# Altium integrated library Vishay Sprague Tantalum Axial-Lead Capacitor.IntLib: 132 symbols (part 1 of 2)
Pins are listed as number, name and electrical type; pins without a type are passive.

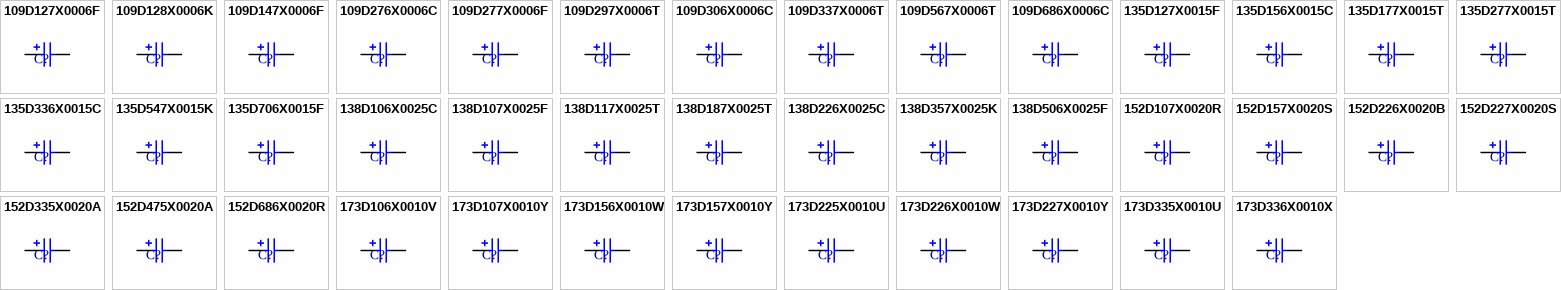
[diagram p0: symbols 109D127X0006F to 173D336X0010X]

## 109D127X0006F
designator C?
Tubular Elastomer-Sealed, Gelled-Electrolyte Sintered Anode Tantalex Capacitor For Operation to +125°C: 120uF, 20% Tolerance, 6 WVDC @ +85°C; Note: See Data Sheet for full range of components; Published: 19-Mar-2004; DatasheetDocument: 15-Jan-2001; PackageReference: 109D-F; Publisher: Altium Limited; ComponentLink1Description: Manufacturer Link; ComponentLink1URL: http://www.vishay.com/; ComponentLink2Description: Datasheet; ComponentLink2URL: http://www.vishay.com/docs/40023/109d.pdf; Value: 120uF
footprint 109D-F (Capacitor, Axial, Polarised; Body 17 x 7.5 mm (LxDia. max), Lead Dia. 0.64 mm (typ))
simulation model CAP (Capacitor)
signal-integrity model 109D127X0006F0
pins: 1, 2
1 alternate drawing of the same symbol

## 109D128X0006K
designator C?
Tubular Elastomer-Sealed, Gelled-Electrolyte Sintered Anode Tantalex Capacitor For Operation to +125°C: 1200uF, 20% Tolerance, 6 WVDC @ +85°C; Note: See Data Sheet for full range of components; Published: 19-Mar-2004; DatasheetDocument: 15-Jan-2001; PackageReference: 109D-K; Publisher: Altium Limited; ComponentLink1Description: Manufacturer Link; ComponentLink1URL: http://www.vishay.com/; ComponentLink2Description: Datasheet; ComponentLink2URL: http://www.vishay.com/docs/40023/109d.pdf; Value: 1200uF
footprint 109D-K (Capacitor, Axial, Polarised; Body 27.8 x 9.9 mm (LxDia. max), Lead Dia. 0.64 mm (typ))
simulation model CAP (Capacitor)
signal-integrity model 109D128X0006K0
pins: 1, 2
1 alternate drawing of the same symbol

## 109D147X0006F
designator C?
Tubular Elastomer-Sealed, Gelled-Electrolyte Sintered Anode Tantalex Capacitor For Operation to +125°C: 140uF, 20% Tolerance, 6 WVDC @ +85°C; Note: See Data Sheet for full range of components; Published: 19-Mar-2004; DatasheetDocument: 15-Jan-2001; PackageReference: 109D-F; Publisher: Altium Limited; ComponentLink1Description: Manufacturer Link; ComponentLink1URL: http://www.vishay.com/; ComponentLink2Description: Datasheet; ComponentLink2URL: http://www.vishay.com/docs/40023/109d.pdf; Value: 140uF
footprint 109D-F (Capacitor, Axial, Polarised; Body 17 x 7.5 mm (LxDia. max), Lead Dia. 0.64 mm (typ))
simulation model CAP (Capacitor)
signal-integrity model 109D147X0006F0
pins: 1, 2
1 alternate drawing of the same symbol

## 109D276X0006C
designator C?
Tubular Elastomer-Sealed, Gelled-Electrolyte Sintered Anode Tantalex Capacitor For Operation to +125°C: 27uF, 20% Tolerance, 6 WVDC @ +85°C; Note: See Data Sheet for full range of components; Published: 19-Mar-2004; DatasheetDocument: 15-Jan-2001; PackageReference: 109D-C; Publisher: Altium Limited; ComponentLink1Description: Manufacturer Link; ComponentLink1URL: http://www.vishay.com/; ComponentLink2Description: Datasheet; ComponentLink2URL: http://www.vishay.com/docs/40023/109d.pdf; Value: 27uF
footprint 109D-C (Capacitor, Axial, Polarised; Body 12.3 x 5.2 mm (LxDia. max), Lead Dia. 0.64 mm (typ))
simulation model CAP (Capacitor)
signal-integrity model 109D276X0006C0
pins: 1, 2
1 alternate drawing of the same symbol

## 109D277X0006F
designator C?
Tubular Elastomer-Sealed, Gelled-Electrolyte Sintered Anode Tantalex Capacitor For Operation to +125°C: 270uF, 20% Tolerance, 6 WVDC @ +85°C; Note: See Data Sheet for full range of components; Published: 19-Mar-2004; DatasheetDocument: 15-Jan-2001; PackageReference: 109D-F; Publisher: Altium Limited; ComponentLink1Description: Manufacturer Link; ComponentLink1URL: http://www.vishay.com/; ComponentLink2Description: Datasheet; ComponentLink2URL: http://www.vishay.com/docs/40023/109d.pdf; Value: 270uF
footprint 109D-F (Capacitor, Axial, Polarised; Body 17 x 7.5 mm (LxDia. max), Lead Dia. 0.64 mm (typ))
simulation model CAP (Capacitor)
signal-integrity model 109D277X0006F0
pins: 1, 2
1 alternate drawing of the same symbol

## 109D297X0006T
designator C?
Tubular Elastomer-Sealed, Gelled-Electrolyte Sintered Anode Tantalex Capacitor For Operation to +125°C: 290uF, 20% Tolerance, 6 WVDC @ +85°C; Note: See Data Sheet for full range of components; Published: 19-Mar-2004; DatasheetDocument: 15-Jan-2001; PackageReference: 109D-T; Publisher: Altium Limited; ComponentLink1Description: Manufacturer Link; ComponentLink1URL: http://www.vishay.com/; ComponentLink2Description: Datasheet; ComponentLink2URL: http://www.vishay.com/docs/40023/109d.pdf; Value: 290uF
footprint 109D-T (Capacitor, Axial, Polarised; Body 20.2 x 9.9 mm (LxDia. max), Lead Dia. 0.64 mm (typ))
simulation model CAP (Capacitor)
signal-integrity model 109D297X0006T0
pins: 1, 2
1 alternate drawing of the same symbol

## 109D306X0006C
designator C?
Tubular Elastomer-Sealed, Gelled-Electrolyte Sintered Anode Tantalex Capacitor For Operation to +125°C: 30uF, 20% Tolerance, 6 WVDC @ +85°C; Note: See Data Sheet for full range of components; Published: 19-Mar-2004; DatasheetDocument: 15-Jan-2001; PackageReference: 109D-C; Publisher: Altium Limited; ComponentLink1Description: Manufacturer Link; ComponentLink1URL: http://www.vishay.com/; ComponentLink2Description: Datasheet; ComponentLink2URL: http://www.vishay.com/docs/40023/109d.pdf; Value: 30uF
footprint 109D-C (Capacitor, Axial, Polarised; Body 12.3 x 5.2 mm (LxDia. max), Lead Dia. 0.64 mm (typ))
simulation model CAP (Capacitor)
signal-integrity model 109D306X0006C0
pins: 1, 2
1 alternate drawing of the same symbol

## 109D337X0006T
designator C?
Tubular Elastomer-Sealed, Gelled-Electrolyte Sintered Anode Tantalex Capacitor For Operation to +125°C: 330uF, 20% Tolerance, 6 WVDC @ +85°C; Note: See Data Sheet for full range of components; Published: 19-Mar-2004; DatasheetDocument: 15-Jan-2001; PackageReference: 109D-T; Publisher: Altium Limited; ComponentLink1Description: Manufacturer Link; ComponentLink1URL: http://www.vishay.com/; ComponentLink2Description: Datasheet; ComponentLink2URL: http://www.vishay.com/docs/40023/109d.pdf; Value: 330uF
footprint 109D-T (Capacitor, Axial, Polarised; Body 20.2 x 9.9 mm (LxDia. max), Lead Dia. 0.64 mm (typ))
simulation model CAP (Capacitor)
signal-integrity model 109D337X0006T0
pins: 1, 2
1 alternate drawing of the same symbol

## 109D567X0006T
designator C?
Tubular Elastomer-Sealed, Gelled-Electrolyte Sintered Anode Tantalex Capacitor For Operation to +125°C: 560uF, 20% Tolerance, 6 WVDC @ +85°C; Note: See Data Sheet for full range of components; Published: 19-Mar-2004; DatasheetDocument: 15-Jan-2001; PackageReference: 109D-T; Publisher: Altium Limited; ComponentLink1Description: Manufacturer Link; ComponentLink1URL: http://www.vishay.com/; ComponentLink2Description: Datasheet; ComponentLink2URL: http://www.vishay.com/docs/40023/109d.pdf; Value: 560uF
footprint 109D-T (Capacitor, Axial, Polarised; Body 20.2 x 9.9 mm (LxDia. max), Lead Dia. 0.64 mm (typ))
simulation model CAP (Capacitor)
signal-integrity model 109D567X0006T0
pins: 1, 2
1 alternate drawing of the same symbol

## 109D686X0006C
designator C?
Tubular Elastomer-Sealed, Gelled-Electrolyte Sintered Anode Tantalex Capacitor For Operation to +125°C: 68uF, 20% Tolerance, 6 WVDC @ +85°C; Note: See Data Sheet for full range of components; Published: 19-Mar-2004; DatasheetDocument: 15-Jan-2001; PackageReference: 109D-C; Publisher: Altium Limited; ComponentLink1Description: Manufacturer Link; ComponentLink1URL: http://www.vishay.com/; ComponentLink2Description: Datasheet; ComponentLink2URL: http://www.vishay.com/docs/40023/109d.pdf; Value: 68uF
footprint 109D-C (Capacitor, Axial, Polarised; Body 12.3 x 5.2 mm (LxDia. max), Lead Dia. 0.64 mm (typ))
simulation model CAP (Capacitor)
signal-integrity model 109D686X0006C0
pins: 1, 2
1 alternate drawing of the same symbol

## 135D127X0015F
designator C?
Tantalum-Case Tantalum Electrolytic Capacitor with Glass-to-Tantalum Hermetic Seal for -55°C to +200°C Operation: 120uF, 20% Tolerance, 15 WVDC @ +85°C; Note: See Data Sheet for full range of components; Published: 19-Mar-2004; DatasheetDocument: 15-Jan-2001; PackageReference: 135D-F; Publisher: Altium Limited; ComponentLink1Description: Manufacturer Link; ComponentLink1URL: http://www.vishay.com/; ComponentLink2Description: Datasheet; ComponentLink2URL: http://www.vishay.com/docs/40024/135d.pdf; Value: 120uF
footprint 135D-F (Capacitor, Axial, Polarised; Body 17.1 x 7.5 mm (LxDia. max), Lead Dia. 0.64 mm (typ))
simulation model CAP (Capacitor)
signal-integrity model 135D127X0015F2
pins: 1, 2
1 alternate drawing of the same symbol

## 135D156X0015C
designator C?
Tantalum-Case Tantalum Electrolytic Capacitor with Glass-to-Tantalum Hermetic Seal for -55°C to +200°C Operation: 15uF, 20% Tolerance, 15 WVDC @ +85°C; Note: See Data Sheet for full range of components; Published: 19-Mar-2004; DatasheetDocument: 15-Jan-2001; PackageReference: 135D-C; Publisher: Altium Limited; ComponentLink1Description: Manufacturer Link; ComponentLink1URL: http://www.vishay.com/; ComponentLink2Description: Datasheet; ComponentLink2URL: http://www.vishay.com/docs/40024/135d.pdf; Value: 15uF
footprint 135D-C (Capacitor, Axial, Polarised; Body 12.3 x 5.2 mm (LxDia. max), Lead Dia. 0.64 mm (typ))
simulation model CAP (Capacitor)
signal-integrity model 135D156X0015C2
pins: 1, 2
1 alternate drawing of the same symbol

## 135D177X0015T
designator C?
Tantalum-Case Tantalum Electrolytic Capacitor with Glass-to-Tantalum Hermetic Seal for -55°C to +200°C Operation: 170uF, 20% Tolerance, 15 WVDC @ +85°C; Note: See Data Sheet for full range of components; Published: 19-Mar-2004; DatasheetDocument: 15-Jan-2001; PackageReference: 135D-T; Publisher: Altium Limited; ComponentLink1Description: Manufacturer Link; ComponentLink1URL: http://www.vishay.com/; ComponentLink2Description: Datasheet; ComponentLink2URL: http://www.vishay.com/docs/40024/135d.pdf; Value: 170uF
footprint 135D-T (Capacitor, Axial, Polarised; Body 20.2 x 9.9 mm (LxDia. max), Lead Dia. 0.64 mm (typ))
simulation model CAP (Capacitor)
signal-integrity model 135D177X0015T2
pins: 1, 2
1 alternate drawing of the same symbol

## 135D277X0015T
designator C?
Tantalum-Case Tantalum Electrolytic Capacitor with Glass-to-Tantalum Hermetic Seal for -55°C to +200°C Operation: 270uF, 20% Tolerance, 15 WVDC @ +85°C; Note: See Data Sheet for full range of components; Published: 19-Mar-2004; DatasheetDocument: 15-Jan-2001; PackageReference: 135D-T; Publisher: Altium Limited; ComponentLink1Description: Manufacturer Link; ComponentLink1URL: http://www.vishay.com/; ComponentLink2Description: Datasheet; ComponentLink2URL: http://www.vishay.com/docs/40024/135d.pdf; Value: 270uF
footprint 135D-T (Capacitor, Axial, Polarised; Body 20.2 x 9.9 mm (LxDia. max), Lead Dia. 0.64 mm (typ))
simulation model CAP (Capacitor)
signal-integrity model 135D277X0015T2
pins: 1, 2
1 alternate drawing of the same symbol

## 135D336X0015C
designator C?
Tantalum-Case Tantalum Electrolytic Capacitor with Glass-to-Tantalum Hermetic Seal for -55°C to +200°C Operation: 33uF, 20% Tolerance, 15 WVDC @ +85°C; Note: See Data Sheet for full range of components; Published: 19-Mar-2004; DatasheetDocument: 15-Jan-2001; PackageReference: 135D-C; Publisher: Altium Limited; ComponentLink1Description: Manufacturer Link; ComponentLink1URL: http://www.vishay.com/; ComponentLink2Description: Datasheet; ComponentLink2URL: http://www.vishay.com/docs/40024/135d.pdf; Value: 33uF
footprint 135D-C (Capacitor, Axial, Polarised; Body 12.3 x 5.2 mm (LxDia. max), Lead Dia. 0.64 mm (typ))
simulation model CAP (Capacitor)
signal-integrity model 135D336X0015C2
pins: 1, 2
1 alternate drawing of the same symbol

## 135D547X0015K
designator C?
Tantalum-Case Tantalum Electrolytic Capacitor with Glass-to-Tantalum Hermetic Seal for -55°C to +200°C Operation: 540uF, 20% Tolerance, 15 WVDC @ +85°C; Note: See Data Sheet for full range of components; Published: 19-Mar-2004; DatasheetDocument: 15-Jan-2001; PackageReference: 135D-K; Publisher: Altium Limited; ComponentLink1Description: Manufacturer Link; ComponentLink1URL: http://www.vishay.com/; ComponentLink2Description: Datasheet; ComponentLink2URL: http://www.vishay.com/docs/40024/135d.pdf; Value: 540uF
footprint 135D-K (Capacitor, Axial, Polarised; Body 27.8 x 9.9 mm (LxDia. max), Lead Dia. 0.64 mm (typ))
simulation model CAP (Capacitor)
signal-integrity model 135D547X0015K2
pins: 1, 2
1 alternate drawing of the same symbol

## 135D706X0015F
designator C?
Tantalum-Case Tantalum Electrolytic Capacitor with Glass-to-Tantalum Hermetic Seal for -55°C to +200°C Operation: 70uF, 20% Tolerance, 15 WVDC @ +85°C; Note: See Data Sheet for full range of components; Published: 19-Mar-2004; DatasheetDocument: 15-Jan-2001; PackageReference: 135D-F; Publisher: Altium Limited; ComponentLink1Description: Manufacturer Link; ComponentLink1URL: http://www.vishay.com/; ComponentLink2Description: Datasheet; ComponentLink2URL: http://www.vishay.com/docs/40024/135d.pdf; Value: 70uF
footprint 135D-F (Capacitor, Axial, Polarised; Body 17.1 x 7.5 mm (LxDia. max), Lead Dia. 0.64 mm (typ))
simulation model CAP (Capacitor)
signal-integrity model 135D706X0015F2
pins: 1, 2
1 alternate drawing of the same symbol

## 138D106X0025C
designator C?
Gelled-Electrolyte Sintered Anode Tantalex Capacitor with Glass-to-Tantalum True Hermetic Anode Seal: 10uF, 20% Tolerance, 25 WVDC @ +85°C; Note: See Data Sheet for full range of components; Published: 19-Mar-2004; DatasheetDocument: 18-Jan-2002; PackageReference: 138D-C; Publisher: Altium Limited; ComponentLink1Description: Manufacturer Link; ComponentLink1URL: http://www.vishay.com/; ComponentLink2Description: Datasheet; ComponentLink2URL: http://www.vishay.com/docs/40025/138d.pdf; Value: 10uF
footprint 138D-C (Capacitor, Axial, Polarised; Body 12.3 x 5.1 mm (LxDia. max), Lead Dia. 0.64 mm (typ))
simulation model CAP (Capacitor)
signal-integrity model 138D106X0025C0
pins: 1, 2
1 alternate drawing of the same symbol

## 138D107X0025F
designator C?
Gelled-Electrolyte Sintered Anode Tantalex Capacitor with Glass-to-Tantalum True Hermetic Anode Seal: 100uF, 20% Tolerance, 25 WVDC @ +85°C; Note: See Data Sheet for full range of components; Published: 19-Mar-2004; DatasheetDocument: 18-Jan-2002; PackageReference: 138D-F; Publisher: Altium Limited; ComponentLink1Description: Manufacturer Link; ComponentLink1URL: http://www.vishay.com/; ComponentLink2Description: Datasheet; ComponentLink2URL: http://www.vishay.com/docs/40025/138d.pdf; Value: 100uF
footprint 138D-F (Capacitor, Axial, Polarised; Body 17.1 x 7.5 mm (LxDia. max), Lead Dia. 0.64 mm (typ))
simulation model CAP (Capacitor)
signal-integrity model 138D107X0025F0
pins: 1, 2
1 alternate drawing of the same symbol

## 138D117X0025T
designator C?
Gelled-Electrolyte Sintered Anode Tantalex Capacitor with Glass-to-Tantalum True Hermetic Anode Seal: 110uF, 20% Tolerance, 25 WVDC @ +85°C; Note: See Data Sheet for full range of components; Published: 19-Mar-2004; DatasheetDocument: 18-Jan-2002; PackageReference: 138D-T; Publisher: Altium Limited; ComponentLink1Description: Manufacturer Link; ComponentLink1URL: http://www.vishay.com/; ComponentLink2Description: Datasheet; ComponentLink2URL: http://www.vishay.com/docs/40025/138d.pdf; Value: 110uF
footprint 138D-T (Capacitor, Axial, Polarised; Body 20.2 x 9.9 mm (LxDia. max), Lead Dia. 0.64 mm (typ))
simulation model CAP (Capacitor)
signal-integrity model 138D117X0025T0
pins: 1, 2
1 alternate drawing of the same symbol

## 138D187X0025T
designator C?
Gelled-Electrolyte Sintered Anode Tantalex Capacitor with Glass-to-Tantalum True Hermetic Anode Seal: 180uF, 20% Tolerance, 25 WVDC @ +85°C; Note: See Data Sheet for full range of components; Published: 19-Mar-2004; DatasheetDocument: 18-Jan-2002; PackageReference: 138D-T; Publisher: Altium Limited; ComponentLink1Description: Manufacturer Link; ComponentLink1URL: http://www.vishay.com/; ComponentLink2Description: Datasheet; ComponentLink2URL: http://www.vishay.com/docs/40025/138d.pdf; Value: 180uF
footprint 138D-T (Capacitor, Axial, Polarised; Body 20.2 x 9.9 mm (LxDia. max), Lead Dia. 0.64 mm (typ))
simulation model CAP (Capacitor)
signal-integrity model 138D187X0025T0
pins: 1, 2
1 alternate drawing of the same symbol

## 138D226X0025C
designator C?
Gelled-Electrolyte Sintered Anode Tantalex Capacitor with Glass-to-Tantalum True Hermetic Anode Seal: 22uF, 20% Tolerance, 25 WVDC @ +85°C; Note: See Data Sheet for full range of components; Published: 19-Mar-2004; DatasheetDocument: 18-Jan-2002; PackageReference: 138D-C; Publisher: Altium Limited; ComponentLink1Description: Manufacturer Link; ComponentLink1URL: http://www.vishay.com/; ComponentLink2Description: Datasheet; ComponentLink2URL: http://www.vishay.com/docs/40025/138d.pdf; Value: 22uF
footprint 138D-C (Capacitor, Axial, Polarised; Body 12.3 x 5.1 mm (LxDia. max), Lead Dia. 0.64 mm (typ))
simulation model CAP (Capacitor)
signal-integrity model 138D226X0025C0
pins: 1, 2
1 alternate drawing of the same symbol

## 138D357X0025K
designator C?
Gelled-Electrolyte Sintered Anode Tantalex Capacitor with Glass-to-Tantalum True Hermetic Anode Seal: 350uF, 20% Tolerance, 25 WVDC @ +85°C; Note: See Data Sheet for full range of components; Published: 19-Mar-2004; DatasheetDocument: 18-Jan-2002; PackageReference: 138D-K; Publisher: Altium Limited; ComponentLink1Description: Manufacturer Link; ComponentLink1URL: http://www.vishay.com/; ComponentLink2Description: Datasheet; ComponentLink2URL: http://www.vishay.com/docs/40025/138d.pdf; Value: 350uF
footprint 138D-K (Capacitor, Axial, Polarised; Body 27.8 x 9.9 mm (LxDia. max), Lead Dia. 0.64 mm (typ))
simulation model CAP (Capacitor)
signal-integrity model 138D357X0025K0
pins: 1, 2
1 alternate drawing of the same symbol

## 138D506X0025F
designator C?
Gelled-Electrolyte Sintered Anode Tantalex Capacitor with Glass-to-Tantalum True Hermetic Anode Seal: 50uF, 20% Tolerance, 25 WVDC @ +85°C; Note: See Data Sheet for full range of components; Published: 19-Mar-2004; DatasheetDocument: 18-Jan-2002; PackageReference: 138D-F; Publisher: Altium Limited; ComponentLink1Description: Manufacturer Link; ComponentLink1URL: http://www.vishay.com/; ComponentLink2Description: Datasheet; ComponentLink2URL: http://www.vishay.com/docs/40025/138d.pdf; Value: 50uF
footprint 138D-F (Capacitor, Axial, Polarised; Body 17.1 x 7.5 mm (LxDia. max), Lead Dia. 0.64 mm (typ))
simulation model CAP (Capacitor)
signal-integrity model 138D506X0025F0
pins: 1, 2
1 alternate drawing of the same symbol

## 152D107X0020R
designator C?
Hermetically-Sealed, Metal-Case, Solid-Electrolyte Tantalex Capacitor: 100uF, 20% Tolerance, 20 WVDC @ +85°C, Surge = 26V; Note: See Data Sheet for full range of components; Published: 19-Mar-2004; DatasheetDocument: 12-Jan-2001; PackageReference: 152D-R; Publisher: Altium Limited; ComponentLink1Description: Manufacturer Link; ComponentLink1URL: http://www.vishay.com/; ComponentLink2Description: Datasheet; ComponentLink2URL: http://www.vishay.com/docs/40016/152d.pdf; Value: 100uF
footprint 152D-R (Capacitor, Axial, Polarised; Body 18.2 x 7.8 mm (LxDia. max), Lead Dia. 0.51 mm (typ))
simulation model CAP (Capacitor)
signal-integrity model 152D107X0020R2
pins: 1, 2
1 alternate drawing of the same symbol

## 152D157X0020S
designator C?
Hermetically-Sealed, Metal-Case, Solid-Electrolyte Tantalex Capacitor: 150uF, 20% Tolerance, 20 WVDC @ +85°C, Surge = 26V; Note: See Data Sheet for full range of components; Published: 19-Mar-2004; DatasheetDocument: 12-Jan-2001; PackageReference: 152D-S; Publisher: Altium Limited; ComponentLink1Description: Manufacturer Link; ComponentLink1URL: http://www.vishay.com/; ComponentLink2Description: Datasheet; ComponentLink2URL: http://www.vishay.com/docs/40016/152d.pdf; Value: 150uF
footprint 152D-S (Capacitor, Axial, Polarised; Body 20.8 x 9.3 mm (LxDia. max), Lead Dia. 0.51 mm (typ))
simulation model CAP (Capacitor)
signal-integrity model 152D157X0020S2
pins: 1, 2
1 alternate drawing of the same symbol

## 152D226X0020B
designator C?
Hermetically-Sealed, Metal-Case, Solid-Electrolyte Tantalex Capacitor: 22uF, 20% Tolerance, 20 WVDC @ +85°C, Surge = 26V; Note: See Data Sheet for full range of components; Published: 19-Mar-2004; DatasheetDocument: 12-Jan-2001; PackageReference: 152D-B; Publisher: Altium Limited; ComponentLink1Description: Manufacturer Link; ComponentLink1URL: http://www.vishay.com/; ComponentLink2Description: Datasheet; ComponentLink2URL: http://www.vishay.com/docs/40016/152d.pdf; Value: 22uF
footprint 152D-B (Capacitor, Axial, Polarised; Body 12.8 x 5.1 mm (LxDia. max), Lead Dia. 0.51 mm (typ))
simulation model CAP (Capacitor)
signal-integrity model 152D226X0020B2
pins: 1, 2
1 alternate drawing of the same symbol

## 152D227X0020S
designator C?
Hermetically-Sealed, Metal-Case, Solid-Electrolyte Tantalex Capacitor: 220uF, 20% Tolerance, 20 WVDC @ +85°C, Surge = 26V; Note: See Data Sheet for full range of components; Published: 19-Mar-2004; DatasheetDocument: 12-Jan-2001; PackageReference: 152D-S; Publisher: Altium Limited; ComponentLink1Description: Manufacturer Link; ComponentLink1URL: http://www.vishay.com/; ComponentLink2Description: Datasheet; ComponentLink2URL: http://www.vishay.com/docs/40016/152d.pdf; Value: 220uF
footprint 152D-S (Capacitor, Axial, Polarised; Body 20.8 x 9.3 mm (LxDia. max), Lead Dia. 0.51 mm (typ))
simulation model CAP (Capacitor)
signal-integrity model 152D227X0020S2
pins: 1, 2
1 alternate drawing of the same symbol

## 152D335X0020A
designator C?
Hermetically-Sealed, Metal-Case, Solid-Electrolyte Tantalex Capacitor: 3.3uF, 20% Tolerance, 20 WVDC @ +85°C, Surge = 26V; Note: See Data Sheet for full range of components; Published: 19-Mar-2004; DatasheetDocument: 12-Jan-2001; PackageReference: 152D-A; Publisher: Altium Limited; ComponentLink1Description: Manufacturer Link; ComponentLink1URL: http://www.vishay.com/; ComponentLink2Description: Datasheet; ComponentLink2URL: http://www.vishay.com/docs/40016/152d.pdf; Value: 3.3uF
footprint 152D-A (Capacitor, Axial, Polarised; Body 8.1 x 3.8 mm (LxDia. max), Lead Dia. 0.51 mm (typ))
simulation model CAP (Capacitor)
signal-integrity model 152D335X0020A2
pins: 1, 2
1 alternate drawing of the same symbol

## 152D475X0020A
designator C?
Hermetically-Sealed, Metal-Case, Solid-Electrolyte Tantalex Capacitor: 4.7uF, 20% Tolerance, 20 WVDC @ +85°C, Surge = 26V; Note: See Data Sheet for full range of components; Published: 19-Mar-2004; DatasheetDocument: 12-Jan-2001; PackageReference: 152D-A; Publisher: Altium Limited; ComponentLink1Description: Manufacturer Link; ComponentLink1URL: http://www.vishay.com/; ComponentLink2Description: Datasheet; ComponentLink2URL: http://www.vishay.com/docs/40016/152d.pdf; Value: 4.7uF
footprint 152D-A (Capacitor, Axial, Polarised; Body 8.1 x 3.8 mm (LxDia. max), Lead Dia. 0.51 mm (typ))
simulation model CAP (Capacitor)
signal-integrity model 152D475X0020A2
pins: 1, 2
1 alternate drawing of the same symbol

## 152D686X0020R
designator C?
Hermetically-Sealed, Metal-Case, Solid-Electrolyte Tantalex Capacitor: 68uF, 20% Tolerance, 20 WVDC @ +85°C, Surge = 26V; Note: See Data Sheet for full range of components; Published: 19-Mar-2004; DatasheetDocument: 12-Jan-2001; PackageReference: 152D-R; Publisher: Altium Limited; ComponentLink1Description: Manufacturer Link; ComponentLink1URL: http://www.vishay.com/; ComponentLink2Description: Datasheet; ComponentLink2URL: http://www.vishay.com/docs/40016/152d.pdf; Value: 68uF
footprint 152D-R (Capacitor, Axial, Polarised; Body 18.2 x 7.8 mm (LxDia. max), Lead Dia. 0.51 mm (typ))
simulation model CAP (Capacitor)
signal-integrity model 152D686X0020R2
pins: 1, 2
1 alternate drawing of the same symbol

## 173D106X0010V
designator C?
Molded-Case Miniature Axial-Lead Solid-Electrolyte Tantalex Capacitor: 10uF, 20% Tolerance, 10 WVDC @ +85°C, Surge = 13V; Note: See Data Sheet for full range of components; Published: 19-Mar-2004; DatasheetDocument: 03-Dec-2001; PackageReference: 173D-V; Publisher: Altium Limited; ComponentLink1Description: Manufacturer Link; ComponentLink1URL: http://www.vishay.com/; ComponentLink2Description: Datasheet; ComponentLink2URL: http://www.vishay.com/docs/40019/173d.pdf; Value: 10uF
footprint 173D-V (Capacitor, Axial, Polarised; Body 7.4 x 2.8 mm (LxDia. max), Lead Dia. 0.51 mm (typ))
simulation model CAP (Capacitor)
signal-integrity model 173D106X0010V
pins: 1, 2
1 alternate drawing of the same symbol

## 173D107X0010Y
designator C?
Molded-Case Miniature Axial-Lead Solid-Electrolyte Tantalex Capacitor: 100uF, 20% Tolerance, 10 WVDC @ +85°C, Surge = 13V; Note: See Data Sheet for full range of components; Published: 19-Mar-2004; DatasheetDocument: 03-Dec-2001; PackageReference: 173D-Y; Publisher: Altium Limited; ComponentLink1Description: Manufacturer Link; ComponentLink1URL: http://www.vishay.com/; ComponentLink2Description: Datasheet; ComponentLink2URL: http://www.vishay.com/docs/40019/173d.pdf; Value: 100uF
footprint 173D-Y (Capacitor, Axial, Polarised; Body 14 x 7.1 mm (LxDia. max), Lead Dia. 0.64 mm (typ))
simulation model CAP (Capacitor)
signal-integrity model 173D107X0010Y
pins: 1, 2
1 alternate drawing of the same symbol

## 173D156X0010W
designator C?
Molded-Case Miniature Axial-Lead Solid-Electrolyte Tantalex Capacitor: 15uF, 20% Tolerance, 10 WVDC @ +85°C, Surge = 13V; Note: See Data Sheet for full range of components; Published: 19-Mar-2004; DatasheetDocument: 03-Dec-2001; PackageReference: 173D-W; Publisher: Altium Limited; ComponentLink1Description: Manufacturer Link; ComponentLink1URL: http://www.vishay.com/; ComponentLink2Description: Datasheet; ComponentLink2URL: http://www.vishay.com/docs/40019/173d.pdf; Value: 15uF
footprint 173D-W (Capacitor, Axial, Polarised; Body 8.8 x 4.6 mm (LxDia. max), Lead Dia. 0.51 mm (typ))
simulation model CAP (Capacitor)
signal-integrity model 173D156X0010W
pins: 1, 2
1 alternate drawing of the same symbol

## 173D157X0010Y
designator C?
Molded-Case Miniature Axial-Lead Solid-Electrolyte Tantalex Capacitor: 150uF, 20% Tolerance, 10 WVDC @ +85°C, Surge = 13V; Note: See Data Sheet for full range of components; Published: 19-Mar-2004; DatasheetDocument: 03-Dec-2001; PackageReference: 173D-Y; Publisher: Altium Limited; ComponentLink1Description: Manufacturer Link; ComponentLink1URL: http://www.vishay.com/; ComponentLink2Description: Datasheet; ComponentLink2URL: http://www.vishay.com/docs/40019/173d.pdf; Value: 150uF
footprint 173D-Y (Capacitor, Axial, Polarised; Body 14 x 7.1 mm (LxDia. max), Lead Dia. 0.64 mm (typ))
simulation model CAP (Capacitor)
signal-integrity model 173D157X0010Y
pins: 1, 2
1 alternate drawing of the same symbol

## 173D225X0010U
designator C?
Molded-Case Miniature Axial-Lead Solid-Electrolyte Tantalex Capacitor: 2.2uF, 20% Tolerance, 10 WVDC @ +85°C, Surge = 13V; Note: See Data Sheet for full range of components; Published: 19-Mar-2004; DatasheetDocument: 03-Dec-2001; PackageReference: 173D-U; Publisher: Altium Limited; ComponentLink1Description: Manufacturer Link; ComponentLink1URL: http://www.vishay.com/; ComponentLink2Description: Datasheet; ComponentLink2URL: http://www.vishay.com/docs/40019/173d.pdf; Value: 2.2uF
footprint 173D-U (Capacitor, Axial, Polarised; Body 6.6 x 2.4 mm (LxDia. max), Lead Dia. 0.51 mm (typ))
simulation model CAP (Capacitor)
signal-integrity model 173D225X0010U
pins: 1, 2
1 alternate drawing of the same symbol

## 173D226X0010W
designator C?
Molded-Case Miniature Axial-Lead Solid-Electrolyte Tantalex Capacitor: 22uF, 20% Tolerance, 10 WVDC @ +85°C, Surge = 13V; Note: See Data Sheet for full range of components; Published: 19-Mar-2004; DatasheetDocument: 03-Dec-2001; PackageReference: 173D-W; Publisher: Altium Limited; ComponentLink1Description: Manufacturer Link; ComponentLink1URL: http://www.vishay.com/; ComponentLink2Description: Datasheet; ComponentLink2URL: http://www.vishay.com/docs/40019/173d.pdf; Value: 22uF
footprint 173D-W (Capacitor, Axial, Polarised; Body 8.8 x 4.6 mm (LxDia. max), Lead Dia. 0.51 mm (typ))
simulation model CAP (Capacitor)
signal-integrity model 173D226X0010W
pins: 1, 2
1 alternate drawing of the same symbol

## 173D227X0010Y
designator C?
Molded-Case Miniature Axial-Lead Solid-Electrolyte Tantalex Capacitor: 220uF, 20% Tolerance, 10 WVDC @ +85°C, Surge = 13V; Note: See Data Sheet for full range of components; Published: 19-Mar-2004; DatasheetDocument: 03-Dec-2001; PackageReference: 173D-Y; Publisher: Altium Limited; ComponentLink1Description: Manufacturer Link; ComponentLink1URL: http://www.vishay.com/; ComponentLink2Description: Datasheet; ComponentLink2URL: http://www.vishay.com/docs/40019/173d.pdf; Value: 220uF
footprint 173D-Y (Capacitor, Axial, Polarised; Body 14 x 7.1 mm (LxDia. max), Lead Dia. 0.64 mm (typ))
simulation model CAP (Capacitor)
signal-integrity model 173D227X0010Y
pins: 1, 2
1 alternate drawing of the same symbol

## 173D335X0010U
designator C?
Molded-Case Miniature Axial-Lead Solid-Electrolyte Tantalex Capacitor: 3.3uF, 20% Tolerance, 10 WVDC @ +85°C, Surge = 13V; Note: See Data Sheet for full range of components; Published: 19-Mar-2004; DatasheetDocument: 03-Dec-2001; PackageReference: 173D-U; Publisher: Altium Limited; ComponentLink1Description: Manufacturer Link; ComponentLink1URL: http://www.vishay.com/; ComponentLink2Description: Datasheet; ComponentLink2URL: http://www.vishay.com/docs/40019/173d.pdf; Value: 3.3uF
footprint 173D-U (Capacitor, Axial, Polarised; Body 6.6 x 2.4 mm (LxDia. max), Lead Dia. 0.51 mm (typ))
simulation model CAP (Capacitor)
signal-integrity model 173D335X0010U
pins: 1, 2
1 alternate drawing of the same symbol

## 173D336X0010X
designator C?
Molded-Case Miniature Axial-Lead Solid-Electrolyte Tantalex Capacitor: 33uF, 20% Tolerance, 10 WVDC @ +85°C, Surge = 13V; Note: See Data Sheet for full range of components; Published: 19-Mar-2004; DatasheetDocument: 03-Dec-2001; PackageReference: 173D-X; Publisher: Altium Limited; ComponentLink1Description: Manufacturer Link; ComponentLink1URL: http://www.vishay.com/; ComponentLink2Description: Datasheet; ComponentLink2URL: http://www.vishay.com/docs/40019/173d.pdf; Value: 33uF
footprint 173D-X (Capacitor, Axial, Polarised; Body 10.7 x 4.6 mm (LxDia. max), Lead Dia. 0.51 mm (typ))
simulation model CAP (Capacitor)
signal-integrity model 173D336X0010X
pins: 1, 2
1 alternate drawing of the same symbol

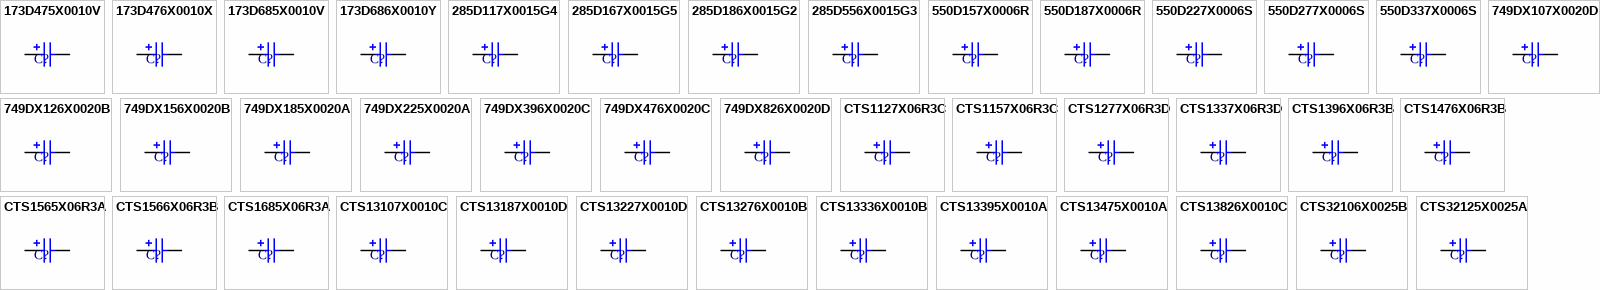
[diagram p1: symbols 173D475X0010V to CTS32125X0025A]

## 173D475X0010V
designator C?
Molded-Case Miniature Axial-Lead Solid-Electrolyte Tantalex Capacitor: 4.7uF, 20% Tolerance, 10 WVDC @ +85°C, Surge = 13V; Note: See Data Sheet for full range of components; Published: 19-Mar-2004; DatasheetDocument: 03-Dec-2001; PackageReference: 173D-V; Publisher: Altium Limited; ComponentLink1Description: Manufacturer Link; ComponentLink1URL: http://www.vishay.com/; ComponentLink2Description: Datasheet; ComponentLink2URL: http://www.vishay.com/docs/40019/173d.pdf; Value: 4.7uF
footprint 173D-V (Capacitor, Axial, Polarised; Body 7.4 x 2.8 mm (LxDia. max), Lead Dia. 0.51 mm (typ))
simulation model CAP (Capacitor)
signal-integrity model 173D475X0010V
pins: 1, 2
1 alternate drawing of the same symbol

## 173D476X0010X
designator C?
Molded-Case Miniature Axial-Lead Solid-Electrolyte Tantalex Capacitor: 47uF, 20% Tolerance, 10 WVDC @ +85°C, Surge = 13V; Note: See Data Sheet for full range of components; Published: 19-Mar-2004; DatasheetDocument: 03-Dec-2001; PackageReference: 173D-X; Publisher: Altium Limited; ComponentLink1Description: Manufacturer Link; ComponentLink1URL: http://www.vishay.com/; ComponentLink2Description: Datasheet; ComponentLink2URL: http://www.vishay.com/docs/40019/173d.pdf; Value: 47uF
footprint 173D-X (Capacitor, Axial, Polarised; Body 10.7 x 4.6 mm (LxDia. max), Lead Dia. 0.51 mm (typ))
simulation model CAP (Capacitor)
signal-integrity model 173D476X0010X
pins: 1, 2
1 alternate drawing of the same symbol

## 173D685X0010V
designator C?
Molded-Case Miniature Axial-Lead Solid-Electrolyte Tantalex Capacitor: 6.8uF, 20% Tolerance, 10 WVDC @ +85°C, Surge = 13V; Note: See Data Sheet for full range of components; Published: 19-Mar-2004; DatasheetDocument: 03-Dec-2001; PackageReference: 173D-V; Publisher: Altium Limited; ComponentLink1Description: Manufacturer Link; ComponentLink1URL: http://www.vishay.com/; ComponentLink2Description: Datasheet; ComponentLink2URL: http://www.vishay.com/docs/40019/173d.pdf; Value: 6.8uF
footprint 173D-V (Capacitor, Axial, Polarised; Body 7.4 x 2.8 mm (LxDia. max), Lead Dia. 0.51 mm (typ))
simulation model CAP (Capacitor)
signal-integrity model 173D685X0010V
pins: 1, 2
1 alternate drawing of the same symbol

## 173D686X0010Y
designator C?
Molded-Case Miniature Axial-Lead Solid-Electrolyte Tantalex Capacitor: 68uF, 20% Tolerance, 10 WVDC @ +85°C, Surge = 13V; Note: See Data Sheet for full range of components; Published: 19-Mar-2004; DatasheetDocument: 03-Dec-2001; PackageReference: 173D-Y; Publisher: Altium Limited; ComponentLink1Description: Manufacturer Link; ComponentLink1URL: http://www.vishay.com/; ComponentLink2Description: Datasheet; ComponentLink2URL: http://www.vishay.com/docs/40019/173d.pdf; Value: 68uF
footprint 173D-Y (Capacitor, Axial, Polarised; Body 14 x 7.1 mm (LxDia. max), Lead Dia. 0.64 mm (typ))
simulation model CAP (Capacitor)
signal-integrity model 173D686X0010Y
pins: 1, 2
1 alternate drawing of the same symbol

## 285D117X0015G4
designator C?
Hermetically-Sealed, Gelled-Electrolyte Sintered Anode Tantalex Capacitor for Operation to +125°C: 110uF, 20% Tolerance, 15 WVDC @ +85°C; Note: See Data Sheet for full range of components; Published: 19-Mar-2004; PackageReference: 285D-G4; Publisher: Altium Limited; ComponentLink1Description: Manufacturer Link; ComponentLink1URL: http://www.vishay.com/; ComponentLink2Description: Datasheet; ComponentLink2URL: http://www.vishay.com/docs/40028/285d.pdf; Value: 110uF
footprint 285D-G4 (Capacitor, Axial, Polarised; Body 55.5 x 9.9 mm (LxDia. max), Lead Dia. 0.64 mm (typ))
simulation model CAP (Capacitor)
signal-integrity model 285D117X0015G42
pins: 1, 2
1 alternate drawing of the same symbol

## 285D167X0015G5
designator C?
Hermetically-Sealed, Gelled-Electrolyte Sintered Anode Tantalex Capacitor for Operation to +125°C: 160uF, 20% Tolerance, 15 WVDC @ +85°C; Note: See Data Sheet for full range of components; Published: 19-Mar-2004; PackageReference: 285D-G5; Publisher: Altium Limited; ComponentLink1Description: Manufacturer Link; ComponentLink1URL: http://www.vishay.com/; ComponentLink2Description: Datasheet; ComponentLink2URL: http://www.vishay.com/docs/40028/285d.pdf; Value: 160uF
footprint 285D-G5 (Capacitor, Axial, Polarised; Body 71.4 x 9.9 mm (LxDia. max), Lead Dia. 0.64 mm (typ))
simulation model CAP (Capacitor)
signal-integrity model 285D167X0015G52
pins: 1, 2
1 alternate drawing of the same symbol

## 285D186X0015G2
designator C?
Hermetically-Sealed, Gelled-Electrolyte Sintered Anode Tantalex Capacitor for Operation to +125°C: 18uF, 20% Tolerance, 15 WVDC @ +85°C; Note: See Data Sheet for full range of components; Published: 19-Mar-2004; PackageReference: 285D-G2; Publisher: Altium Limited; ComponentLink1Description: Manufacturer Link; ComponentLink1URL: http://www.vishay.com/; ComponentLink2Description: Datasheet; ComponentLink2URL: http://www.vishay.com/docs/40028/285d.pdf; Value: 18uF
footprint 285D-G2 (Capacitor, Axial, Polarised; Body 26.2 x 7.5 mm (LxDia. max), Lead Dia. 0.64 mm (typ))
simulation model CAP (Capacitor)
signal-integrity model 285D186X0015G22
pins: 1, 2
1 alternate drawing of the same symbol

## 285D556X0015G3
designator C?
Hermetically-Sealed, Gelled-Electrolyte Sintered Anode Tantalex Capacitor for Operation to +125°C: 55uF, 20% Tolerance, 15 WVDC @ +85°C; Note: See Data Sheet for full range of components; Published: 19-Mar-2004; PackageReference: 285D-G3; Publisher: Altium Limited; ComponentLink1Description: Manufacturer Link; ComponentLink1URL: http://www.vishay.com/; ComponentLink2Description: Datasheet; ComponentLink2URL: http://www.vishay.com/docs/40028/285d.pdf; Value: 55uF
footprint 285D-G3 (Capacitor, Axial, Polarised; Body 38.1 x 9.9 mm (LxDia. max), Lead Dia. 0.64 mm (typ))
simulation model CAP (Capacitor)
signal-integrity model 285D556X0015G32
pins: 1, 2
1 alternate drawing of the same symbol

## 550D157X0006R
designator C?
Hermetically-Sealed, Axial-Lead Solid-Electrolyte Tantalex Capacitor for High Frequency Power Supplies: 150uF, 20% Tolerance, 6 WVDC @ +85°C, Surge = 8V; Note: See Data Sheet for full range of components; Published: 19-Mar-2004; DatasheetDocument: 15-Jan-2001; PackageReference: 550D-R; Publisher: Altium Limited; ComponentLink1Description: Manufacturer Link; ComponentLink1URL: http://www.vishay.com/; ComponentLink2Description: Datasheet; ComponentLink2URL: http://www.vishay.com/docs/40017/550d.pdf; Value: 150uF
footprint 550D-R (Capacitor, Axial, Polarised; Body 18.2 x 7.8 mm (LxDia. max), Lead Dia. 0.51 mm (typ))
simulation model CAP (Capacitor)
signal-integrity model 550D157X0006R2
pins: 1, 2
1 alternate drawing of the same symbol

## 550D187X0006R
designator C?
Hermetically-Sealed, Axial-Lead Solid-Electrolyte Tantalex Capacitor for High Frequency Power Supplies: 180uF, 20% Tolerance, 6 WVDC @ +85°C, Surge = 8V; Note: See Data Sheet for full range of components; Published: 19-Mar-2004; DatasheetDocument: 15-Jan-2001; PackageReference: 550D-R; Publisher: Altium Limited; ComponentLink1Description: Manufacturer Link; ComponentLink1URL: http://www.vishay.com/; ComponentLink2Description: Datasheet; ComponentLink2URL: http://www.vishay.com/docs/40017/550d.pdf; Value: 180uF
footprint 550D-R (Capacitor, Axial, Polarised; Body 18.2 x 7.8 mm (LxDia. max), Lead Dia. 0.51 mm (typ))
simulation model CAP (Capacitor)
signal-integrity model 550D187X0006R2
pins: 1, 2
1 alternate drawing of the same symbol

## 550D227X0006S
designator C?
Hermetically-Sealed, Axial-Lead Solid-Electrolyte Tantalex Capacitor for High Frequency Power Supplies: 220uF, 20% Tolerance, 6 WVDC @ +85°C, Surge = 8V; Note: See Data Sheet for full range of components; Published: 19-Mar-2004; DatasheetDocument: 15-Jan-2001; PackageReference: 550D-S; Publisher: Altium Limited; ComponentLink1Description: Manufacturer Link; ComponentLink1URL: http://www.vishay.com/; ComponentLink2Description: Datasheet; ComponentLink2URL: http://www.vishay.com/docs/40017/550d.pdf; Value: 220uF
footprint 550D-S (Capacitor, Axial, Polarised; Body 20.8 x 9.3 mm (LxDia. max), Lead Dia. 0.51 mm (typ))
simulation model CAP (Capacitor)
signal-integrity model 550D227X0006S2
pins: 1, 2
1 alternate drawing of the same symbol

## 550D277X0006S
designator C?
Hermetically-Sealed, Axial-Lead Solid-Electrolyte Tantalex Capacitor for High Frequency Power Supplies: 270uF, 20% Tolerance, 6 WVDC @ +85°C, Surge = 8V; Note: See Data Sheet for full range of components; Published: 19-Mar-2004; DatasheetDocument: 15-Jan-2001; PackageReference: 550D-S; Publisher: Altium Limited; ComponentLink1Description: Manufacturer Link; ComponentLink1URL: http://www.vishay.com/; ComponentLink2Description: Datasheet; ComponentLink2URL: http://www.vishay.com/docs/40017/550d.pdf; Value: 270uF
footprint 550D-S (Capacitor, Axial, Polarised; Body 20.8 x 9.3 mm (LxDia. max), Lead Dia. 0.51 mm (typ))
simulation model CAP (Capacitor)
signal-integrity model 550D277X0006S2
pins: 1, 2
1 alternate drawing of the same symbol

## 550D337X0006S
designator C?
Hermetically-Sealed, Axial-Lead Solid-Electrolyte Tantalex Capacitor for High Frequency Power Supplies: 330uF, 20% Tolerance, 6 WVDC @ +85°C, Surge = 8V; Note: See Data Sheet for full range of components; Published: 19-Mar-2004; DatasheetDocument: 15-Jan-2001; PackageReference: 550D-S; Publisher: Altium Limited; ComponentLink1Description: Manufacturer Link; ComponentLink1URL: http://www.vishay.com/; ComponentLink2Description: Datasheet; ComponentLink2URL: http://www.vishay.com/docs/40017/550d.pdf; Value: 330uF
footprint 550D-S (Capacitor, Axial, Polarised; Body 20.8 x 9.3 mm (LxDia. max), Lead Dia. 0.51 mm (typ))
simulation model CAP (Capacitor)
signal-integrity model 550D337X0006S2
pins: 1, 2
1 alternate drawing of the same symbol

## 749DX107X0020D
designator C?
Hermetically-Sealed, Axial-Lead, To CCEC Specifications: Type 749DX, 100uF, 20% Tolerance, 20 WVDC @ +85°C; Note: See Data Sheet for full range of components; Published: 19-Mar-2004; DatasheetDocument: 28-Mar-2002; PackageReference: CTS-D; Publisher: Altium Limited; ComponentLink1Description: Manufacturer Link; ComponentLink1URL: http://www.vishay.com/; ComponentLink2Description: Datasheet; ComponentLink2URL: http://www.vishay.com/docs/42073/cts749dx.pdf; Value: 100uF
footprint CTS-D (Capacitor, Axial, Polarised; Body 20.8 x 9.1 mm (LxDia. max), Lead Dia. 0.63 mm (typ))
simulation model CAP (Capacitor)
signal-integrity model 749DX107X0020D2
pins: 1, 2
1 alternate drawing of the same symbol

## 749DX126X0020B
designator C?
Hermetically-Sealed, Axial-Lead, To CCEC Specifications: Type 749DX, 12uF, 20% Tolerance, 20 WVDC @ +85°C; Note: See Data Sheet for full range of components; Published: 19-Mar-2004; DatasheetDocument: 28-Mar-2002; PackageReference: CTS-B; Publisher: Altium Limited; ComponentLink1Description: Manufacturer Link; ComponentLink1URL: http://www.vishay.com/; ComponentLink2Description: Datasheet; ComponentLink2URL: http://www.vishay.com/docs/42073/cts749dx.pdf; Value: 12uF
footprint CTS-B (Capacitor, Axial, Polarised; Body 12.8 x 4.9 mm (LxDia. max), Lead Dia. 0.53 mm (typ))
simulation model CAP (Capacitor)
signal-integrity model 749DX126X0020B2
pins: 1, 2
1 alternate drawing of the same symbol

## 749DX156X0020B
designator C?
Hermetically-Sealed, Axial-Lead, To CCEC Specifications: Type 749DX, 15uF, 20% Tolerance, 20 WVDC @ +85°C; Note: See Data Sheet for full range of components; Published: 19-Mar-2004; DatasheetDocument: 28-Mar-2002; PackageReference: CTS-B; Publisher: Altium Limited; ComponentLink1Description: Manufacturer Link; ComponentLink1URL: http://www.vishay.com/; ComponentLink2Description: Datasheet; ComponentLink2URL: http://www.vishay.com/docs/42073/cts749dx.pdf; Value: 15uF
footprint CTS-B (Capacitor, Axial, Polarised; Body 12.8 x 4.9 mm (LxDia. max), Lead Dia. 0.53 mm (typ))
simulation model CAP (Capacitor)
signal-integrity model 749DX156X0020B2
pins: 1, 2
1 alternate drawing of the same symbol

## 749DX185X0020A
designator C?
Hermetically-Sealed, Axial-Lead, To CCEC Specifications: Type 749DX, 1.8uF, 20% Tolerance, 20 WVDC @ +85°C; Note: See Data Sheet for full range of components; Published: 19-Mar-2004; DatasheetDocument: 28-Mar-2002; PackageReference: CTS-A; Publisher: Altium Limited; ComponentLink1Description: Manufacturer Link; ComponentLink1URL: http://www.vishay.com/; ComponentLink2Description: Datasheet; ComponentLink2URL: http://www.vishay.com/docs/42073/cts749dx.pdf; Value: 1.8uF
footprint CTS-A (Capacitor, Axial, Polarised; Body 8.1 x 3.6 mm (LxDia. max), Lead Dia. 0.53 mm (typ))
simulation model CAP (Capacitor)
signal-integrity model 749DX185X0020A2
pins: 1, 2
1 alternate drawing of the same symbol

## 749DX225X0020A
designator C?
Hermetically-Sealed, Axial-Lead, To CCEC Specifications: Type 749DX, 2.2uF, 20% Tolerance, 20 WVDC @ +85°C; Note: See Data Sheet for full range of components; Published: 19-Mar-2004; DatasheetDocument: 28-Mar-2002; PackageReference: CTS-A; Publisher: Altium Limited; ComponentLink1Description: Manufacturer Link; ComponentLink1URL: http://www.vishay.com/; ComponentLink2Description: Datasheet; ComponentLink2URL: http://www.vishay.com/docs/42073/cts749dx.pdf; Value: 2.2uF
footprint CTS-A (Capacitor, Axial, Polarised; Body 8.1 x 3.6 mm (LxDia. max), Lead Dia. 0.53 mm (typ))
simulation model CAP (Capacitor)
signal-integrity model 749DX225X0020A2
pins: 1, 2
1 alternate drawing of the same symbol

## 749DX396X0020C
designator C?
Hermetically-Sealed, Axial-Lead, To CCEC Specifications: Type 749DX, 39uF, 20% Tolerance, 20 WVDC @ +85°C; Note: See Data Sheet for full range of components; Published: 19-Mar-2004; DatasheetDocument: 28-Mar-2002; PackageReference: CTS-C; Publisher: Altium Limited; ComponentLink1Description: Manufacturer Link; ComponentLink1URL: http://www.vishay.com/; ComponentLink2Description: Datasheet; ComponentLink2URL: http://www.vishay.com/docs/42073/cts749dx.pdf; Value: 39uF
footprint CTS-C (Capacitor, Axial, Polarised; Body 18.2 x 7.5 mm (LxDia. max), Lead Dia. 0.63 mm (typ))
simulation model CAP (Capacitor)
signal-integrity model 749DX396X0020C2
pins: 1, 2
1 alternate drawing of the same symbol

## 749DX476X0020C
designator C?
Hermetically-Sealed, Axial-Lead, To CCEC Specifications: Type 749DX, 47uF, 20% Tolerance, 20 WVDC @ +85°C; Note: See Data Sheet for full range of components; Published: 19-Mar-2004; DatasheetDocument: 28-Mar-2002; PackageReference: CTS-C; Publisher: Altium Limited; ComponentLink1Description: Manufacturer Link; ComponentLink1URL: http://www.vishay.com/; ComponentLink2Description: Datasheet; ComponentLink2URL: http://www.vishay.com/docs/42073/cts749dx.pdf; Value: 47uF
footprint CTS-C (Capacitor, Axial, Polarised; Body 18.2 x 7.5 mm (LxDia. max), Lead Dia. 0.63 mm (typ))
simulation model CAP (Capacitor)
signal-integrity model 749DX476X0020C2
pins: 1, 2
1 alternate drawing of the same symbol

## 749DX826X0020D
designator C?
Hermetically-Sealed, Axial-Lead, To CCEC Specifications: Type 749DX, 82uF, 20% Tolerance, 20 WVDC @ +85°C; Note: See Data Sheet for full range of components; Published: 19-Mar-2004; DatasheetDocument: 28-Mar-2002; PackageReference: CTS-D; Publisher: Altium Limited; ComponentLink1Description: Manufacturer Link; ComponentLink1URL: http://www.vishay.com/; ComponentLink2Description: Datasheet; ComponentLink2URL: http://www.vishay.com/docs/42073/cts749dx.pdf; Value: 82uF
footprint CTS-D (Capacitor, Axial, Polarised; Body 20.8 x 9.1 mm (LxDia. max), Lead Dia. 0.63 mm (typ))
simulation model CAP (Capacitor)
signal-integrity model 749DX826X0020D2
pins: 1, 2
1 alternate drawing of the same symbol

## CTS1127X06R3C
designator C?
Hermetically-Sealed, Axial-Lead, To CCEC Specifications: Type CTS1, 120uF, 20% Tolerance, 6.3 WVDC @ +85°C; Note: See Data Sheet for full range of components; Published: 19-Mar-2004; DatasheetDocument: 28-Mar-2002; PackageReference: CTS-C; Publisher: Altium Limited; ComponentLink1Description: Manufacturer Link; ComponentLink1URL: http://www.vishay.com/; ComponentLink2Description: Datasheet; ComponentLink2URL: http://www.vishay.com/docs/42073/cts749dx.pdf; Value: 120uF
footprint CTS-C (Capacitor, Axial, Polarised; Body 18.2 x 7.5 mm (LxDia. max), Lead Dia. 0.63 mm (typ))
simulation model CAP (Capacitor)
signal-integrity model CTS1127X06R3C2
pins: 1, 2
1 alternate drawing of the same symbol

## CTS1157X06R3C
designator C?
Hermetically-Sealed, Axial-Lead, To CCEC Specifications: Type CTS1, 150uF, 20% Tolerance, 6.3 WVDC @ +85°C; Note: See Data Sheet for full range of components; Published: 19-Mar-2004; DatasheetDocument: 28-Mar-2002; PackageReference: CTS-C; Publisher: Altium Limited; ComponentLink1Description: Manufacturer Link; ComponentLink1URL: http://www.vishay.com/; ComponentLink2Description: Datasheet; ComponentLink2URL: http://www.vishay.com/docs/42073/cts749dx.pdf; Value: 150uF
footprint CTS-C (Capacitor, Axial, Polarised; Body 18.2 x 7.5 mm (LxDia. max), Lead Dia. 0.63 mm (typ))
simulation model CAP (Capacitor)
signal-integrity model CTS1157X06R3C2
pins: 1, 2
1 alternate drawing of the same symbol

## CTS1277X06R3D
designator C?
Hermetically-Sealed, Axial-Lead, To CCEC Specifications: Type CTS1, 270uF, 20% Tolerance, 6.3 WVDC @ +85°C; Note: See Data Sheet for full range of components; Published: 19-Mar-2004; DatasheetDocument: 28-Mar-2002; PackageReference: CTS-D; Publisher: Altium Limited; ComponentLink1Description: Manufacturer Link; ComponentLink1URL: http://www.vishay.com/; ComponentLink2Description: Datasheet; ComponentLink2URL: http://www.vishay.com/docs/42073/cts749dx.pdf; Value: 270uF
footprint CTS-D (Capacitor, Axial, Polarised; Body 20.8 x 9.1 mm (LxDia. max), Lead Dia. 0.63 mm (typ))
simulation model CAP (Capacitor)
signal-integrity model CTS1277X06R3D2
pins: 1, 2
1 alternate drawing of the same symbol

## CTS1337X06R3D
designator C?
Hermetically-Sealed, Axial-Lead, To CCEC Specifications: Type CTS1, 330uF, 20% Tolerance, 6.3 WVDC @ +85°C; Note: See Data Sheet for full range of components; Published: 19-Mar-2004; DatasheetDocument: 28-Mar-2002; PackageReference: CTS-D; Publisher: Altium Limited; ComponentLink1Description: Manufacturer Link; ComponentLink1URL: http://www.vishay.com/; ComponentLink2Description: Datasheet; ComponentLink2URL: http://www.vishay.com/docs/42073/cts749dx.pdf; Value: 330uF
footprint CTS-D (Capacitor, Axial, Polarised; Body 20.8 x 9.1 mm (LxDia. max), Lead Dia. 0.63 mm (typ))
simulation model CAP (Capacitor)
signal-integrity model CTS1337X06R3D2
pins: 1, 2
1 alternate drawing of the same symbol

## CTS1396X06R3B
designator C?
Hermetically-Sealed, Axial-Lead, To CCEC Specifications: Type CTS1, 39uF, 20% Tolerance, 6.3 WVDC @ +85°C; Note: See Data Sheet for full range of components; Published: 19-Mar-2004; DatasheetDocument: 28-Mar-2002; PackageReference: CTS-B; Publisher: Altium Limited; ComponentLink1Description: Manufacturer Link; ComponentLink1URL: http://www.vishay.com/; ComponentLink2Description: Datasheet; ComponentLink2URL: http://www.vishay.com/docs/42073/cts749dx.pdf; Value: 39uF
footprint CTS-B (Capacitor, Axial, Polarised; Body 12.8 x 4.9 mm (LxDia. max), Lead Dia. 0.53 mm (typ))
simulation model CAP (Capacitor)
signal-integrity model CTS1396X06R3B2
pins: 1, 2
1 alternate drawing of the same symbol